# Altium footprint library 001-H-01 CAN to Bluetooth.PcbLib: 40 footprints (part 1 of 3)
Each footprint in its own frame and in the unit in brackets; x right, y up, seen from the top. Pads: shape width x height; smd on the part's side, far side on the other; paste and mask are expansions set on the pad; w line width, h text height; cw(c..) or ccw(c..) is an arc to the next point about the centre after c.
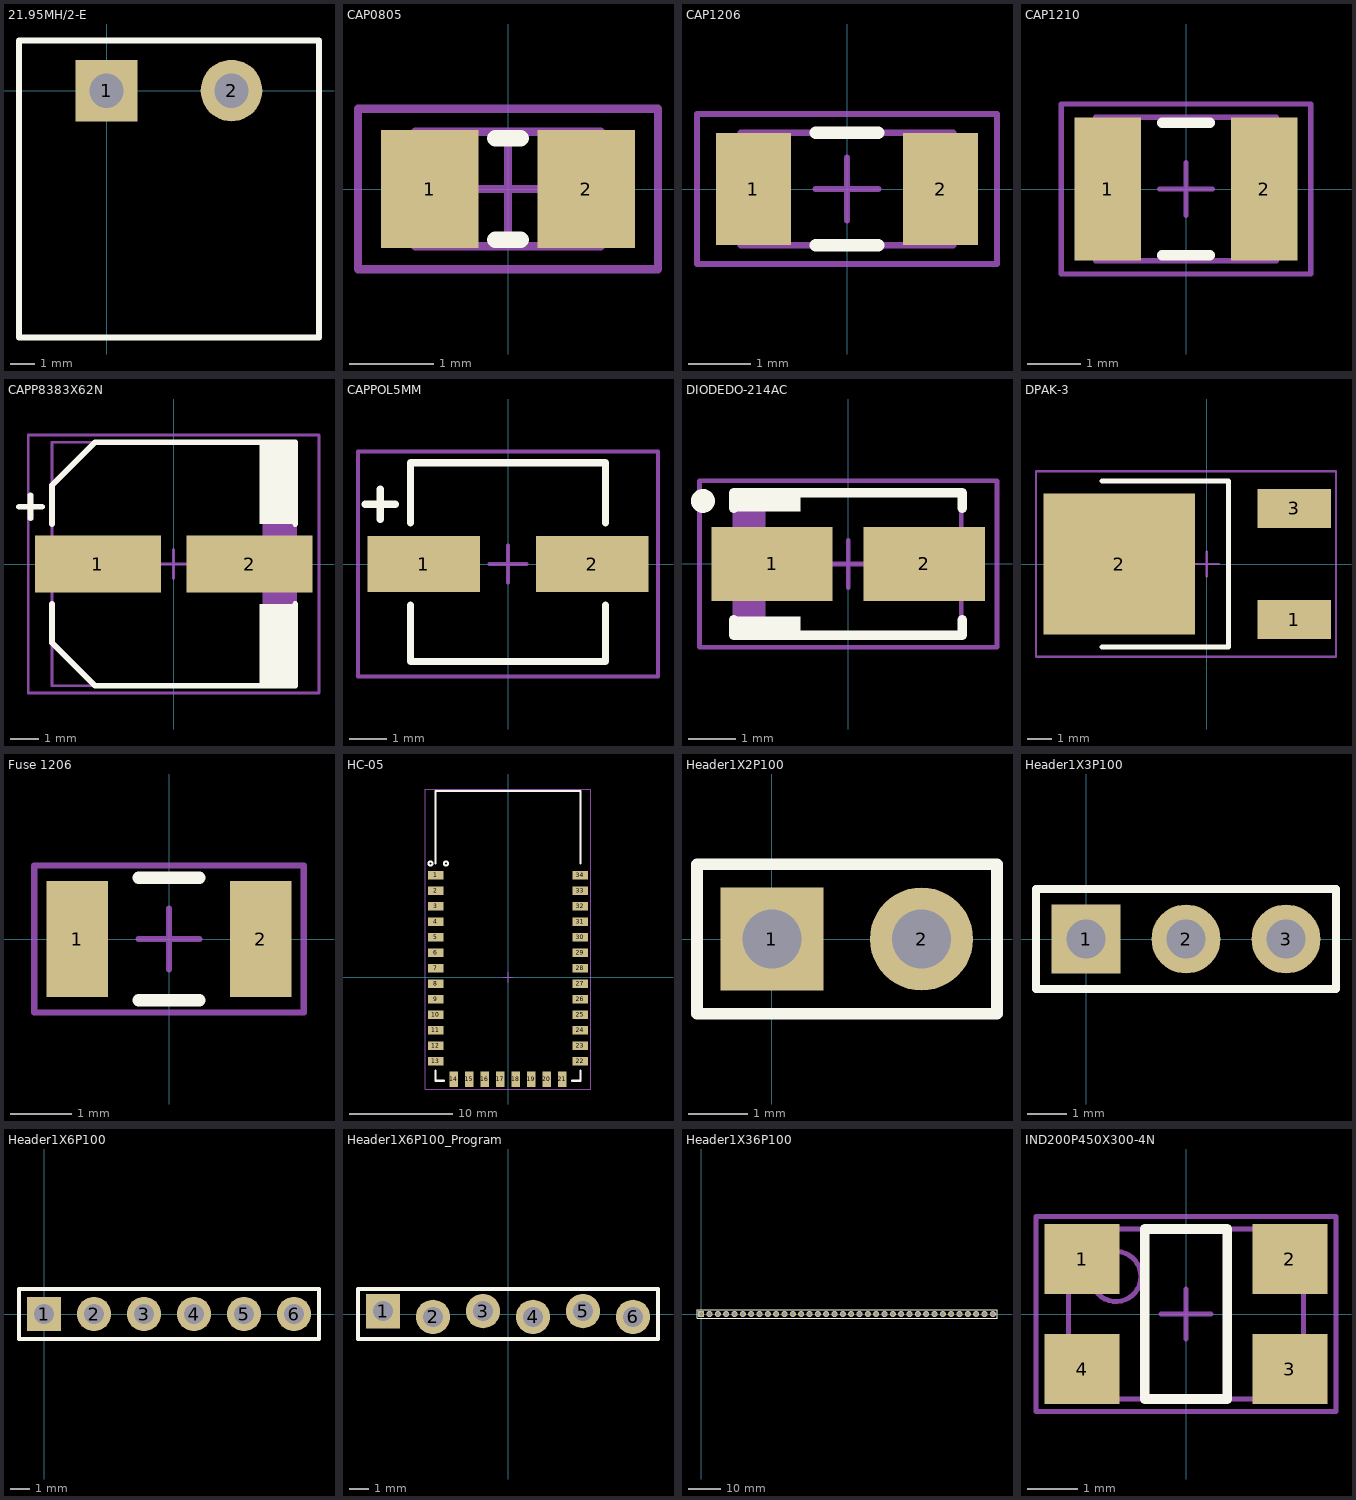
[diagram p0: the footprints below, top view; thin cyan lines are the x and y axes]

## 21.95MH/2-E [mm] "Terminal Block, Horizontal, Header, 5.08 mm, 2 Ways"
pads (2):
  rect 2.5x2.5 hole 1.4: 1(0,0)
  round 2.5 hole 1.4: 2(5.08,0)
Top Overlay:
  lines w0.254: -3.556,-10.033 8.636,-10.033 8.636,2.032 -3.556,2.032 -3.556,-10.033
3D body "pxc_1757242_06_MSTBA-2-5-2-G-5-08_3D (1).stp": height 8.6, standoff -3.5, extent -3.54,-10 8.62,2.002

## CAP0805 [mm] "Chip Capacitor, 2-Leads, Body 2.0x1.3mm, IPC Medium Density"
height 0.7
pads (2):
  rect 1.15x1.4 smd: 1(-0.925,0) 2(0.925,0)
Top Overlay:
  lines w0.2: -0.15,-0.6 0.15,-0.6 ; -0.15,0.6 0.15,0.6
Mechanical 13:
  lines w0.1: -1.1,-0.675 -1.1,0.675 1.1,0.675 1.1,-0.675 -1.1,-0.675
Mechanical 15:
  lines w0.1: -0.5,0 0.5,0 ; 0,-0.5 0,0.5 ; -1.775,-0.95 -1.775,0.95 1.775,0.95 1.775,-0.95 -1.775,-0.95
3D body: height 0.7, standoff 0, extent -1.1,-0.675 1.1,0.675
3D body "CAP_0805.step": height 0.95, standoff 0, extent -1,-0.6 1,0.6

## CAP1206 [mm] "Chip Capacitor, 2-Leads, Body 3.2x2.5mm, IPC Medium Density"
pads (2):
  rect 1.2x1.8 smd: 1(-1.5,0) 2(1.5,0)
Top Overlay:
  lines w0.2: -0.5,-0.9 0.5,-0.9 ; -0.5,0.9 0.5,0.9
Mechanical 13:
  lines w0.1: -1.7,-0.9 -1.7,0.9 1.7,0.9 1.7,-0.9 -1.7,-0.9
Mechanical 15:
  lines w0.1: -0.5,0 0.5,0 ; 0,-0.5 0,0.5 ; -2.4,-1.2 -2.4,1.2 2.4,1.2 2.4,-1.2 -2.4,-1.2
3D body "rnd_150-1206b102k101nt.stp": height 1.6, standoff 0, extent -1.6,-0.825 1.6,0.825
3D body: height 0.7, standoff 0, extent -1.7,-0.9 1.7,0.9

## CAP1210 [mm] "Chip Capacitor, 2-Leads, Body 3.2x2.5mm, IPC Medium Density"
height 0.7
pads (2):
  rect 1.25x2.7 smd: 1(-1.475,0) 2(1.475,0)
Top Overlay:
  lines w0.2: -0.45,-1.25 0.45,-1.25 ; -0.45,1.25 0.45,1.25
Mechanical 13:
  lines w0.1: -1.7,-1.35 1.7,-1.35 1.7,1.35 -1.7,1.35 -1.7,-1.35
Mechanical 15:
  lines w0.1: -0.5,0 0.5,0 ; 0,-0.5 0,0.5 ; -2.35,-1.6 2.35,-1.6 2.35,1.6 -2.35,1.6 -2.35,-1.6
3D body: height 0.7, standoff 0, extent -1.7,-1.35 1.7,1.35
3D body "User Library-cap_1210_lowprofile.step": height 1.3, standoff 0, extent -1.6,-1.25 1.6,1.25

## CAPP8383X62N [mm] "Capacitor SMD, 2-Leads, Body 8.3x8.3mm, IPC Medium Density"
height 6.2
pads (2):
  rect 4.4x2 smd: 1(-2.65,0) 2(2.65,0)
Top Overlay:
  rectangle: 3,-4.2 4.25,-1.4
  rectangle: 3,1.4 4.25,4.2
  lines w0.2: -5.4,2 -4.6,2 ; -5,1.6 -5,2.4 ; -4.25,-1.4 -4.25,-2.75 -2.75,-4.25 4.25,-4.25 4.25,-1.4 ; -4.25,1.4 -4.25,2.75 -2.75,4.25 4.25,4.25 4.25,1.4
Mechanical 13:
  region: 4.25,4.25 3.107,4.25 3.107,-4.25 4.25,-4.25
  lines w0.1: -4.25,-4.25 -4.25,4.25 4.25,4.25 4.25,-4.25 -4.25,-4.25
Mechanical 15:
  lines w0.1: -0.5,0 0.5,0 ; 0,-0.5 0,0.5 ; -5.075,-4.5 -5.075,4.5 5.075,4.5 5.075,-4.5 -5.075,-4.5
3D body: height 6.2, standoff 0, extent -4.25,-4.25 4.25,4.25

## CAPPOL5MM [mm] "Capacitor SMD, 2-Leads, Body 5x5_4mm, IPC Medium Densit"
pads (2):
  rect 3x1.5 smd: 1(-2.25,0) 2(2.25,0)
Top Overlay:
  lines w0.2: -3.8,1.6 -3,1.6 ; -3.4,1.2 -3.4,2 ; -2.6,-1.1 -2.6,-2.6 2.6,-2.6 2.6,-1.1 ; -2.6,1.1 -2.6,2.7 2.6,2.7 2.6,1.1
Mechanical 15:
  lines w0.1: -0.5,0 0.5,0 ; 0,-0.5 0,0.5 ; -4,-3 -4,3 4,3 4,-3 -4,-3
3D body "User Library-CAPSMD5x5_5.STEP": height 5.52, standoff -0.4, extent -3.056,-2.657 3.04,2.677

## DIODEDO-214AC [mm] "Molded Diode, 2-Leads, Body 4.4x2.7mm, IPC Medium Density"
height 2.4
pads (2):
  rect 2.55x1.55 smd: 1(-1.6,0) 2(1.6,0)
Top Overlay:
  circle w0.25: c-3.05,1.325 r0.125
  rectangle: -2.4,1.1 -1,1.5
  rectangle: -2.4,-1.5 -1,-1.1
  lines w0.2: -2.4,-1.175 -2.4,-1.5 2.4,-1.5 2.4,-1.175 ; -2.4,1.175 -2.4,1.5 2.4,1.5 2.4,1.175
Mechanical 13:
  rectangle: -2.375,-1.475 -1.736,1.475
  lines w0.1: -2.375,-1.475 2.375,-1.475 2.375,1.475 -2.375,1.475 -2.375,-1.475
Mechanical 15:
  lines w0.1: -0.5,0 0.5,0 ; 0,-0.5 0,0.5 ; -3.125,-1.75 3.125,-1.75 3.125,1.75 -3.125,1.75 -3.125,-1.75
3D body: height 2.4, standoff 0, extent -2.375,-1.475 2.375,1.475
3D body "User Library-DO-214AC_SMA.step": height 2.15, standoff -0.05, extent -2.5,-1.35 2.5,1.35

## DPAK-3 [mm]
pads (3):
  rect 3x1.6 smd: 1(3.59,-2.285) 3(3.59,2.285)
  rect 6.2x5.8 smd: 2(-3.59,0)
Top Overlay:
  lines w0.2: -4.3,-3.4 0.9,-3.4 0.9,3.4 -4.3,3.4
Mechanical 15:
  lines w0.1: -0.5,0 0.5,0 ; 0,-0.5 0,0.5 ; -7,-3.8 5.3,-3.8 5.3,3.8 -7,3.8 -7,-3.8
3D body "User Library-DPAK_TO-252AA.step": height 2.37, standoff -0.03, extent -6.202,-3.367 3.898,3.367

## Fuse 1206 [mm] "Fuse 1206"
height 0.65
pads (2):
  rect 1x1.9 smd: 1(-1.5,0) 2(1.5,0)
Top Overlay:
  lines w0.2: -0.5,-1 0.5,-1 ; -0.5,1 0.5,1
Mechanical 15:
  lines w0.1: -0.5,0 0.5,0 ; 0,-0.5 0,0.5 ; -2.2,-1.2 -2.2,1.2 2.2,1.2 2.2,-1.2 -2.2,-1.2
3D body "User Library-nona SMD075F.step": height 0.56, standoff 0, extent -1.601,-0.826 1.601,0.826

## HC-05 [mm] "Bluetooth module HC-05"
pads (34):
  rect 1.5x0.8 smd: 1(-7,9.875) 2(-7,8.375) 3(-7,6.875) 4(-7,5.375) 5(-7,3.875) 6(-7,2.375) 7(-7,0.875) 8(-7,-0.625) 9(-7,-2.125) 10(-7,-3.625) 11(-7,-5.125) 12(-7,-6.625) 13(-7,-8.125) 22(7,-8.125) 23(7,-6.625) 24(7,-5.125) 25(7,-3.625) 26(7,-2.125) 27(7,-0.625) 28(7,0.875) 29(7,2.375) 30(7,3.875) 31(7,5.375) 32(7,6.875) 33(7,8.375) 34(7,9.875)
  rect 0.8x1.5 smd: 14(-5.25,-9.875) 15(-3.75,-9.875) 16(-2.25,-9.875) 17(-0.75,-9.875) 18(0.75,-9.875) 19(2.25,-9.875) 20(3.75,-9.875) 21(5.25,-9.875)
Top Overlay:
  circle w0.2: c-7.5,11 r0.2
  circle w0.2: c-6,11 r0.2
  lines w0.2: -7,-9 -7,-10 -6.2,-10 ; -7,11 -7,18 7,18 7,11 ; 6.2,-10 7,-10 7,-9
Mechanical 15:
  lines w0.1: -0.5,0 0.5,0 ; 0,-0.5 0,0.5 ; -8,-10.8 8,-10.8 8,18.2 -8,18.2 -8,-10.8
3D body "User Library-Bluetooth HC-05_.step": height 2.35, standoff 0, extent -7.01,-9.925 7.01,18.085

## Header1X2P100 [mm] "Header 1X2, 100mil pitch"
pads (2):
  rect 1.75x1.75 hole 1: 1(0,0)
  round 1.75 hole 1: 2(2.54,0)
Top Overlay:
  lines w0.2: -1.27,-1.27 -1.27,1.27 3.82,1.27 3.82,-1.27 -1.27,-1.27
3D body "User Library-Header1x2.STEP": height 8.45, standoff -2.53, extent -1.26,-1.27 3.82,1.27

## Header1X3P100 [mm] "Header 1X3, 100mil pitch"
pads (3):
  rect 1.75x1.75 hole 1: 1(0,0)
  round 1.75 hole 1: 2(2.54,0) 3(5.08,0)
Top Overlay:
  lines w0.2: -1.27,-1.27 6.35,-1.27 6.35,1.27 -1.27,1.27 -1.27,-1.27
3D body: height 9, standoff 0, extent -1.27,-1.27 6.35,1.27

## Header1X6P100 [mm] "Header 1X6, 100mil pitch"
pads (6):
  rect 1.75x1.75 hole 1: 1(0,0)
  round 1.75 hole 1: 2(2.54,0) 3(5.08,0) 4(7.62,0) 5(10.16,0) 6(12.7,0)
Top Overlay:
  lines w0.2: -1.27,-1.27 -1.27,1.27 13.97,1.27 13.97,-1.27 -1.27,-1.27
3D body "User Library-Header_Male_6Pin.STEP": height 8.54, standoff -3, extent -1.27,-1.245 13.97,1.245
3D body: height 9, standoff 0, extent -1.27,-1.27 13.97,1.27

## Header1X6P100_Program [mm] "Header 1X6, 100mil pitch"
pads (6):
  rect 1.75x1.75 hole 1: 1(-6.35,0.15)
  round 1.75 hole 1: 2(-3.81,-0.15) 3(-1.27,0.15) 4(1.27,-0.15) 5(3.81,0.15) 6(6.35,-0.15)
Top Overlay:
  lines w0.2: -7.62,-1.27 7.62,-1.27 7.62,1.27 -7.62,1.27 -7.62,-1.27

## Header1X36P100 [mm] "Header 1X36, 100mil pitch"
pads (36):
  rect 1.85x1.85 hole 1.1: 1(0,0)
  round 1.85 hole 1.1: 2(2.54,0) 3(5.08,0) 4(7.62,0) 5(10.16,0) 6(12.7,0) 7(15.24,0) 8(17.78,0) 9(20.32,0) 10(22.86,0) 11(25.4,0) 12(27.94,0) 13(30.48,0) 14(33.02,0) 15(35.56,0) 16(38.1,0) 17(40.64,0) 18(43.18,0) 19(45.72,0) 20(48.26,0) 21(50.8,0) 22(53.34,0) 23(55.88,0) 24(58.42,0) 25(60.96,0) 26(63.5,0) 27(66.04,0) 28(68.58,0) 29(71.12,0) 30(73.66,0) 31(76.2,0) 32(78.74,0) 33(81.28,0) 34(83.82,0) 35(86.36,0) 36(88.9,0)
Top Overlay:
  lines w0.2: -1.27,-1.27 -1.27,1.27 90.17,1.27 90.17,-1.27 -1.27,-1.27

## IND200P450X300-4N [mm] "IND, 4-Leads, Body 3.4x4.7mm (max), Pitch 2.00mm, IPC Medium Density"
height 3
pads (4):
  rect 1.5x1.4 smd: 1(-2.075,1.1) 2(2.075,1.1) 3(2.075,-1.1) 4(-2.075,-1.1)
Top Overlay:
  lines w0.2: -0.825,-1.7 0.825,-1.7 0.825,1.7 -0.825,1.7 -0.825,-1.7
Mechanical 13:
  circle w0.1: c-1.4,0.75 r0.5
  lines w0.1: -2.35,-1.7 2.35,-1.7 2.35,1.7 -2.35,1.7 -2.35,-1.7
Mechanical 15:
  lines w0.1: -0.5,0 0.5,0 ; 0,-0.5 0,0.5 ; -3,-1.95 3,-1.95 3,1.95 -3,1.95 -3,-1.95
3D body: height 3, standoff 0, extent -2.35,-1.7 2.35,1.7